# Altium footprint library 2N2222.PcbLib: 1 footprints
Each footprint in its own frame and in the unit in brackets; x right, y up, seen from the top. Pads: shape width x height; smd on the part's side, far side on the other; paste and mask are expansions set on the pad; w line width, h text height; cw(c..) or ccw(c..) is an arc to the next point about the centre after c.
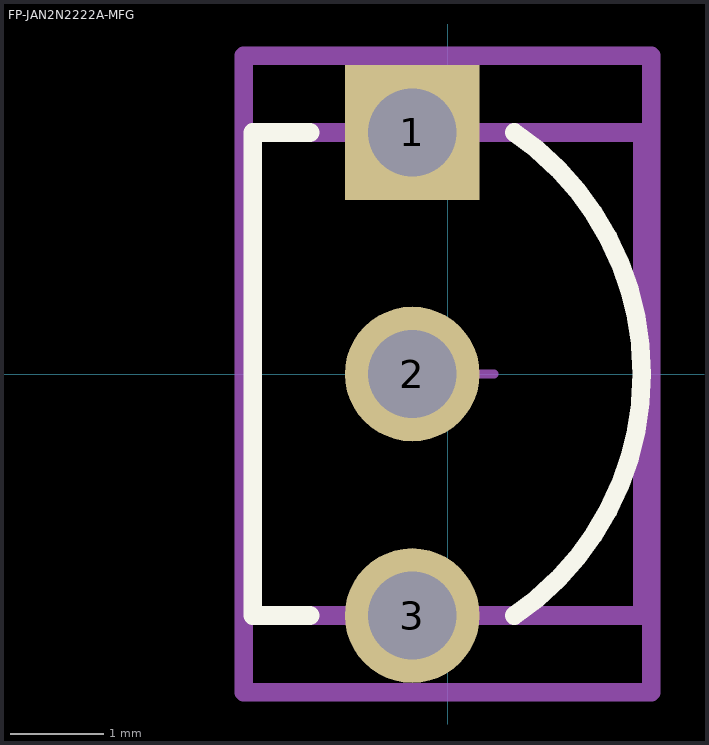
[diagram p0: the footprint, top view; thin cyan lines are the x and y axes]

## FP-JAN2N2222A-MFG [mm]
pads (3):
  rect 1.45x1.45 hole 0.95 paste-2539.97 mask+0: 1(-0.38,2.6)
  round 1.45 hole 0.95 paste-2539.97 mask+0: 2(-0.38,0) 3(-0.38,-2.6)
Top Overlay:
  lines w0.2: -1.48,-2.6 -2.095,-2.6 -2.095,2.6 -1.48,2.6 ; 0.72,-2.6 ccw(c-1.058,0) 0.72,2.6
Top Assembly:
  lines w0.2: -2.195,-3.425 2.195,-3.425 2.195,3.425 -2.195,3.425 -2.195,-3.425
  text ".Designator" at 0,-0.001 h1
Top 3D Body:
  lines w0.2: -2.095,-2.6 2.095,-2.6 2.095,2.6 -2.095,2.6 -2.095,-2.6
Top Courtyard:
  lines w0.2: -2.195,-3.425 2.195,-3.425 2.195,3.425 -2.195,3.425 -2.195,-3.425
Top Component Center:
  lines w0.1: -0.5,0 0.5,0 ; 0,-0.5 0,0.5
3D body "Trans_onsemi_KSA733YTA_eec.STEP": height 0.25, standoff 0, extent -2.195,-3.425 2.195,3.425